# Altium schematic symbol library Jumper.Schlib: 1 symbol
Pins are listed as number, name and electrical type; pins without a type are passive.

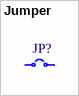
[diagram p0: symbol Jumper]

## Jumper
designator JP?
Jumper
pins: 1, 2